# EAGLE library part LT1991ACMSPBF (library linear)
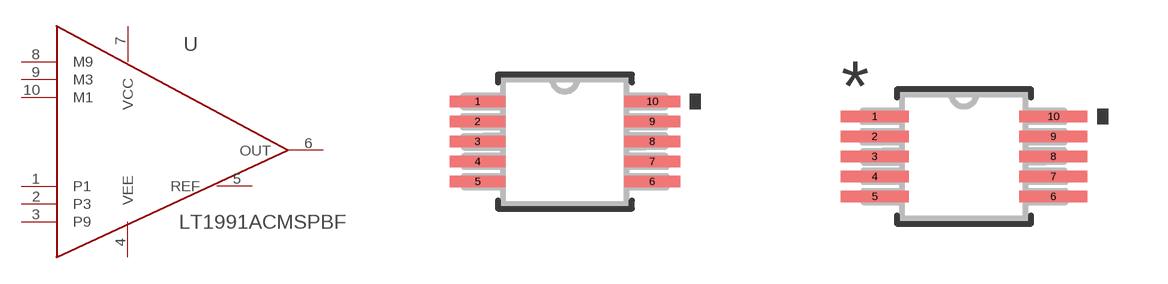
[diagram p324: symbol with the pads of MSOP-10_MS; footprints MSOP-10_MS, MSOP-10_MS-M]

Designator prefix -

## LT1991ACMSPBF (MANUFACTURER_PART_NUMBER: lt1991acms#pbf; VENDOR: Linear Technology)  [MSOP-10_MS]
1  P1  in
2  P3  in
3  P9  in
4  VEE  pwr
5  REF  in
6  OUT  out
7  VCC  pwr
8  M9  in
9  M3  in
10  M1  in

## LT1991ACMSPBFMSOP-10_MS-M (MANUFACTURER_PART_NUMBER: lt1991acms#pbf; VENDOR: Linear Technology)  [MSOP-10_MS-M]
Pads as for MSOP-10_MS

## LT1991ACMSPBFMSOP-10_MS-L (MANUFACTURER_PART_NUMBER: lt1991acms#pbf; VENDOR: Linear Technology)  [MSOP-10_MS-L]
Pads as for MSOP-10_MS

## Footprint MSOP-10_MS (pad centres in mm)
smd 1.397 x 0.279: 1 -2.184,1.001; 2 -2.184,0.5; 3 -2.184,0; 4 -2.184,-0.5; 5 -2.184,-1.001; 6 2.184,-1.001; 7 2.184,-0.5; 8 2.184,0; 9 2.184,0.5; 10 2.184,1.001

## Footprint MSOP-10_MS-M (pad centres in mm)
smd 1.702 x 0.279: 1 -2.235,1.001; 2 -2.235,0.5; 3 -2.235,0; 4 -2.235,-0.5; 5 -2.235,-1.001; 6 2.235,-1.001; 7 2.235,-0.5; 8 2.235,0; 9 2.235,0.5; 10 2.235,1.001

## Footprint MSOP-10_MS-L (pad centres in mm)
smd 1.092 x 0.279: 1 -2.134,1.001; 2 -2.134,0.5; 3 -2.134,0; 4 -2.134,-0.5; 5 -2.134,-1.001; 6 2.134,-1.001; 7 2.134,-0.5; 8 2.134,0; 9 2.134,0.5; 10 2.134,1.001